# Altium footprint library Capacitor_THT.PcbLib: 378 footprints (part 14 of 24)
Each footprint in its own frame and in the unit in brackets; x right, y up, seen from the top. Pads: shape width x height; smd on the part's side, far side on the other; paste and mask are expansions set on the pad; w line width, h text height; cw(c..) or ccw(c..) is an arc to the next point about the centre after c.
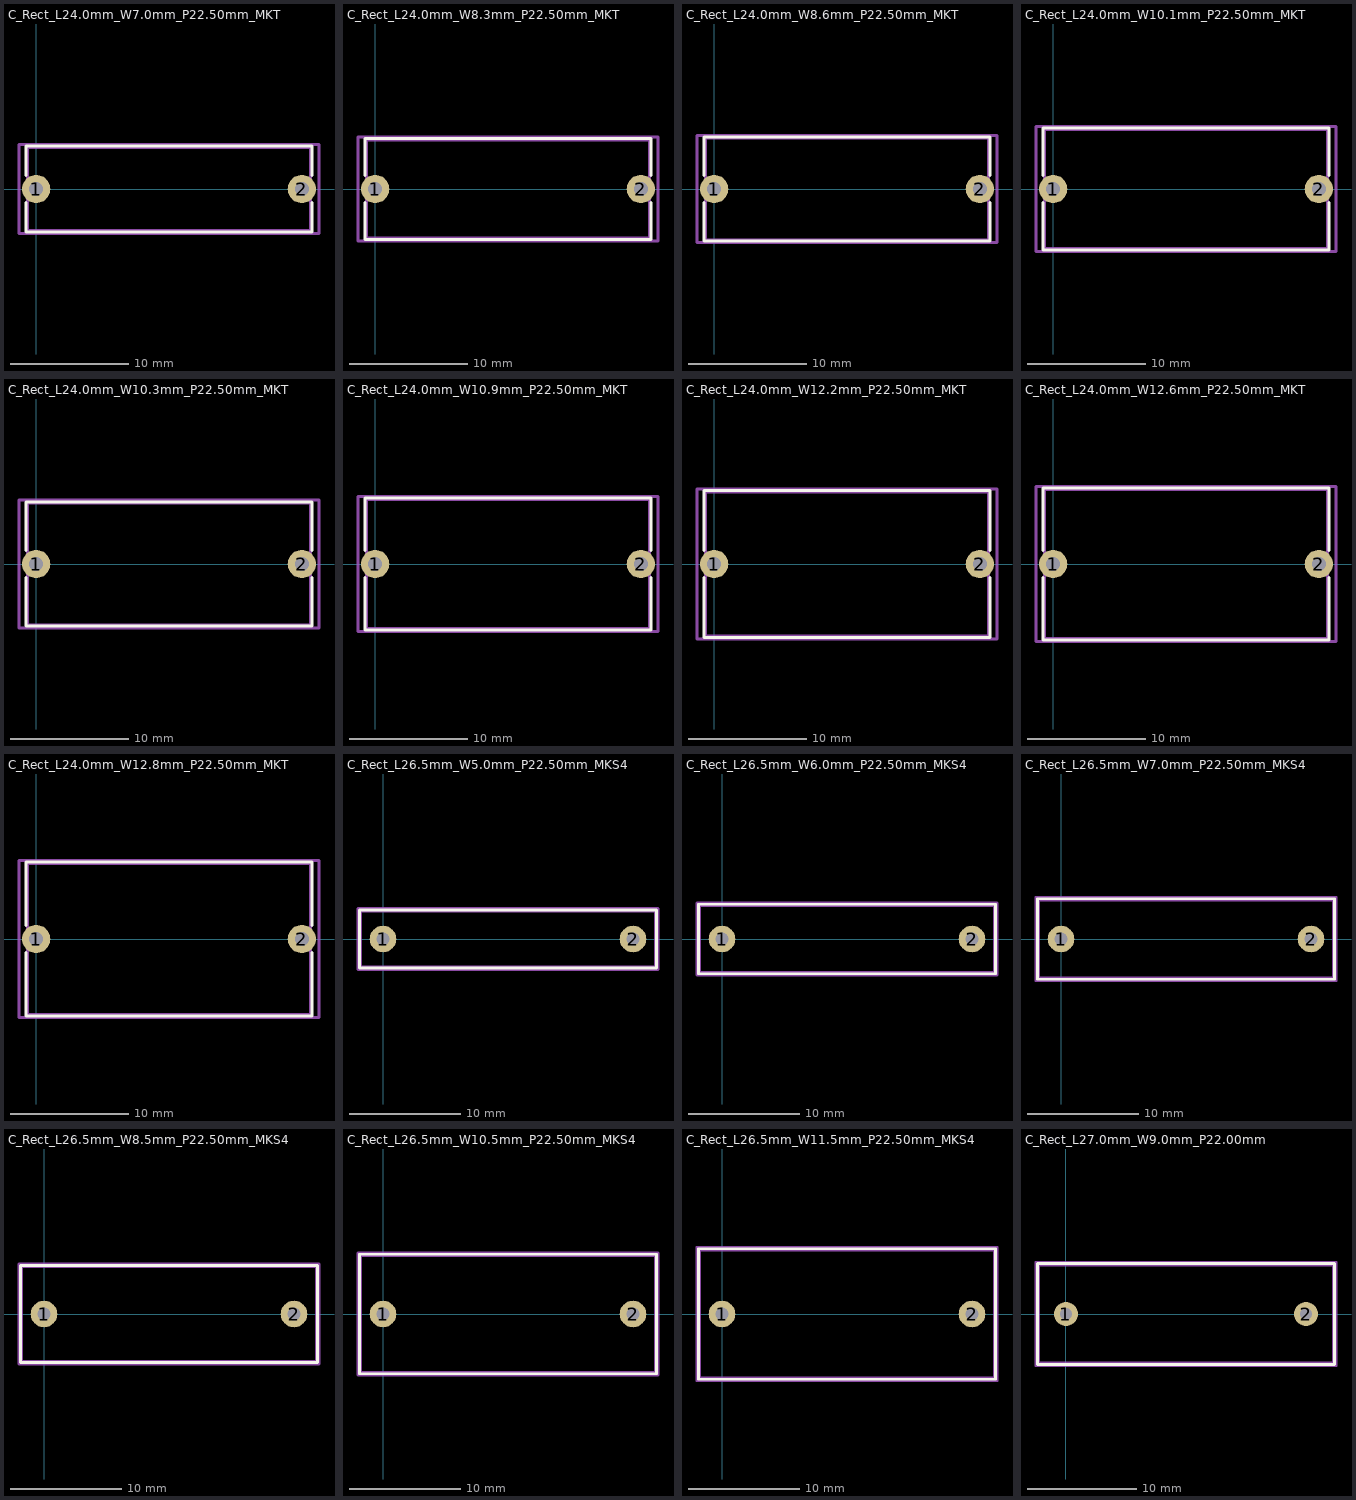
[diagram p13: the footprints below, top view; thin cyan lines are the x and y axes]

## C_Rect_L24.0mm_W7.0mm_P22.50mm_MKT [mm] "C_Rect_L24.0mm_W7.0mm_P22.50mm_MKT"
pads (2):
  round 2.4 hole 1.2: 1(0,0) 2(22.5,0)
F.SilkS:
  lines w0.254: -0.87,-1.147 -0.87,-3.62 23.37,-3.62 23.37,-1.147 ; -0.87,1.147 -0.87,3.62 23.37,3.62 23.37,1.147
Top Component Center:
  lines w0.127: -0.127,0 0.127,0 ; 0,-0.127 0,0.127
Top Assembly:
  lines w0.254: -0.75,-3.5 23.25,-3.5 23.25,3.5 -0.75,3.5 -0.75,-3.5
Top Courtyard:
  lines w0.254: -1.45,-3.75 23.95,-3.75 23.95,3.75 -1.45,3.75 -1.45,-3.75
Top Designator:
  text ".Designator" at 7.816,-0.345 h1.52
3D body "C_Rect_L24.0mm_W7.0mm_P22.50mm_MKT.step": height 15, standoff -1.9, extent -0.45,-3.5 22.95,3.5

## C_Rect_L24.0mm_W8.3mm_P22.50mm_MKT [mm] "C_Rect_L24.0mm_W8.3mm_P22.50mm_MKT"
pads (2):
  round 2.4 hole 1.2: 1(0,0) 2(22.5,0)
F.SilkS:
  lines w0.254: -0.87,-1.147 -0.87,-4.27 23.37,-4.27 23.37,-1.147 ; -0.87,1.147 -0.87,4.27 23.37,4.27 23.37,1.147
Top Component Center:
  lines w0.127: -0.127,0 0.127,0 ; 0,-0.127 0,0.127
Top Assembly:
  lines w0.254: -0.75,-4.15 23.25,-4.15 23.25,4.15 -0.75,4.15 -0.75,-4.15
Top Courtyard:
  lines w0.254: -1.45,-4.4 23.95,-4.4 23.95,4.4 -1.45,4.4 -1.45,-4.4
Top Designator:
  text ".Designator" at 7.816,-0.345 h1.52
3D body "C_Rect_L24.0mm_W8.3mm_P22.50mm_MKT.step": height 15, standoff -1.9, extent -0.45,-4.15 22.95,4.15

## C_Rect_L24.0mm_W8.6mm_P22.50mm_MKT [mm] "C_Rect_L24.0mm_W8.6mm_P22.50mm_MKT"
pads (2):
  round 2.4 hole 1.2: 1(0,0) 2(22.5,0)
F.SilkS:
  lines w0.254: -0.87,-1.147 -0.87,-4.42 23.37,-4.42 23.37,-1.147 ; -0.87,1.147 -0.87,4.42 23.37,4.42 23.37,1.147
Top Component Center:
  lines w0.127: -0.127,0 0.127,0 ; 0,-0.127 0,0.127
Top Assembly:
  lines w0.254: -0.75,-4.3 23.25,-4.3 23.25,4.3 -0.75,4.3 -0.75,-4.3
Top Courtyard:
  lines w0.254: -1.45,-4.55 23.95,-4.55 23.95,4.55 -1.45,4.55 -1.45,-4.55
Top Designator:
  text ".Designator" at 7.816,-0.345 h1.52
3D body "C_Rect_L24.0mm_W8.6mm_P22.50mm_MKT.step": height 15, standoff -1.9, extent -0.45,-4.3 22.95,4.3

## C_Rect_L24.0mm_W10.1mm_P22.50mm_MKT [mm] "C_Rect_L24.0mm_W10.1mm_P22.50mm_MKT"
pads (2):
  round 2.4 hole 1.2: 1(0,0) 2(22.5,0)
F.SilkS:
  lines w0.254: -0.87,-1.147 -0.87,-5.17 23.37,-5.17 23.37,-1.147 ; -0.87,1.147 -0.87,5.17 23.37,5.17 23.37,1.147
Top Component Center:
  lines w0.127: -0.127,0 0.127,0 ; 0,-0.127 0,0.127
Top Assembly:
  lines w0.254: -0.75,-5.05 23.25,-5.05 23.25,5.05 -0.75,5.05 -0.75,-5.05
Top Courtyard:
  lines w0.254: -1.45,-5.3 23.95,-5.3 23.95,5.3 -1.45,5.3 -1.45,-5.3
Top Designator:
  text ".Designator" at 7.816,-0.345 h1.52
3D body "C_Rect_L24.0mm_W10.1mm_P22.50mm_MKT.step": height 15, standoff -1.9, extent -0.45,-5.05 22.95,5.05

## C_Rect_L24.0mm_W10.3mm_P22.50mm_MKT [mm] "C_Rect_L24.0mm_W10.3mm_P22.50mm_MKT"
pads (2):
  round 2.4 hole 1.2: 1(0,0) 2(22.5,0)
F.SilkS:
  lines w0.254: -0.87,-1.147 -0.87,-5.27 23.37,-5.27 23.37,-1.147 ; -0.87,1.147 -0.87,5.27 23.37,5.27 23.37,1.147
Top Component Center:
  lines w0.127: -0.127,0 0.127,0 ; 0,-0.127 0,0.127
Top Assembly:
  lines w0.254: -0.75,-5.15 23.25,-5.15 23.25,5.15 -0.75,5.15 -0.75,-5.15
Top Courtyard:
  lines w0.254: -1.45,-5.4 23.95,-5.4 23.95,5.4 -1.45,5.4 -1.45,-5.4
Top Designator:
  text ".Designator" at 7.816,-0.345 h1.52
3D body "C_Rect_L24.0mm_W10.3mm_P22.50mm_MKT.step": height 15, standoff -1.9, extent -0.45,-5.15 22.95,5.15

## C_Rect_L24.0mm_W10.9mm_P22.50mm_MKT [mm] "C_Rect_L24.0mm_W10.9mm_P22.50mm_MKT"
pads (2):
  round 2.4 hole 1.2: 1(0,0) 2(22.5,0)
F.SilkS:
  lines w0.254: -0.87,-1.147 -0.87,-5.57 23.37,-5.57 23.37,-1.147 ; -0.87,1.147 -0.87,5.57 23.37,5.57 23.37,1.147
Top Component Center:
  lines w0.127: -0.127,0 0.127,0 ; 0,-0.127 0,0.127
Top Assembly:
  lines w0.254: -0.75,-5.45 23.25,-5.45 23.25,5.45 -0.75,5.45 -0.75,-5.45
Top Courtyard:
  lines w0.254: -1.45,-5.7 23.95,-5.7 23.95,5.7 -1.45,5.7 -1.45,-5.7
Top Designator:
  text ".Designator" at 7.816,-0.345 h1.52
3D body "C_Rect_L24.0mm_W10.9mm_P22.50mm_MKT.step": height 15, standoff -1.9, extent -0.45,-5.45 22.95,5.45

## C_Rect_L24.0mm_W12.2mm_P22.50mm_MKT [mm] "C_Rect_L24.0mm_W12.2mm_P22.50mm_MKT"
pads (2):
  round 2.4 hole 1.2: 1(0,0) 2(22.5,0)
F.SilkS:
  lines w0.254: -0.87,-1.147 -0.87,-6.22 23.37,-6.22 23.37,-1.147 ; -0.87,1.147 -0.87,6.22 23.37,6.22 23.37,1.147
Top Component Center:
  lines w0.127: -0.127,0 0.127,0 ; 0,-0.127 0,0.127
Top Assembly:
  lines w0.254: -0.75,-6.1 23.25,-6.1 23.25,6.1 -0.75,6.1 -0.75,-6.1
Top Courtyard:
  lines w0.254: -1.45,-6.35 23.95,-6.35 23.95,6.35 -1.45,6.35 -1.45,-6.35
Top Designator:
  text ".Designator" at 7.816,-0.345 h1.52
3D body "C_Rect_L24.0mm_W12.2mm_P22.50mm_MKT.step": height 15, standoff -1.9, extent -0.45,-6.1 22.95,6.1

## C_Rect_L24.0mm_W12.6mm_P22.50mm_MKT [mm] "C_Rect_L24.0mm_W12.6mm_P22.50mm_MKT"
pads (2):
  round 2.4 hole 1.2: 1(0,0) 2(22.5,0)
F.SilkS:
  lines w0.254: -0.87,-1.147 -0.87,-6.42 23.37,-6.42 23.37,-1.147 ; -0.87,1.147 -0.87,6.42 23.37,6.42 23.37,1.147
Top Component Center:
  lines w0.127: -0.127,0 0.127,0 ; 0,-0.127 0,0.127
Top Assembly:
  lines w0.254: -0.75,-6.3 23.25,-6.3 23.25,6.3 -0.75,6.3 -0.75,-6.3
Top Courtyard:
  lines w0.254: -1.45,-6.55 23.95,-6.55 23.95,6.55 -1.45,6.55 -1.45,-6.55
Top Designator:
  text ".Designator" at 7.816,-0.345 h1.52
3D body "C_Rect_L24.0mm_W12.6mm_P22.50mm_MKT.step": height 15, standoff -1.9, extent -0.45,-6.3 22.95,6.3

## C_Rect_L24.0mm_W12.8mm_P22.50mm_MKT [mm] "C_Rect_L24.0mm_W12.8mm_P22.50mm_MKT"
pads (2):
  round 2.4 hole 1.2: 1(0,0) 2(22.5,0)
F.SilkS:
  lines w0.254: -0.87,-1.147 -0.87,-6.52 23.37,-6.52 23.37,-1.147 ; -0.87,1.147 -0.87,6.52 23.37,6.52 23.37,1.147
Top Component Center:
  lines w0.127: -0.127,0 0.127,0 ; 0,-0.127 0,0.127
Top Assembly:
  lines w0.254: -0.75,-6.4 23.25,-6.4 23.25,6.4 -0.75,6.4 -0.75,-6.4
Top Courtyard:
  lines w0.254: -1.45,-6.65 23.95,-6.65 23.95,6.65 -1.45,6.65 -1.45,-6.65
Top Designator:
  text ".Designator" at 7.816,-0.345 h1.52
3D body "C_Rect_L24.0mm_W12.8mm_P22.50mm_MKT.step": height 15, standoff -1.9, extent -0.45,-6.4 22.95,6.4

## C_Rect_L26.5mm_W5.0mm_P22.50mm_MKS4 [mm] "C_Rect_L26.5mm_W5.0mm_P22.50mm_MKS4"
pads (2):
  round 2.4 hole 1.2: 1(0,0) 2(22.5,0)
F.SilkS:
  lines w0.254: -2.12,-2.62 24.62,-2.62 24.62,2.62 -2.12,2.62 -2.12,-2.62
Top Component Center:
  lines w0.127: -0.127,0 0.127,0 ; 0,-0.127 0,0.127
Top Assembly:
  lines w0.254: -2,-2.5 24.5,-2.5 24.5,2.5 -2,2.5 -2,-2.5
Top Courtyard:
  lines w0.254: -2.25,-2.75 24.75,-2.75 24.75,2.75 -2.25,2.75 -2.25,-2.75
Top Designator:
  text ".Designator" at 7.816,-0.345 h1.52
3D body "C_Rect_L26.5mm_W5.0mm_P22.50mm_MKS4.step": height 21, standoff -1.9, extent -2,-2.5 24.5,2.5

## C_Rect_L26.5mm_W6.0mm_P22.50mm_MKS4 [mm] "C_Rect_L26.5mm_W6.0mm_P22.50mm_MKS4"
pads (2):
  round 2.4 hole 1.2: 1(0,0) 2(22.5,0)
F.SilkS:
  lines w0.254: -2.12,-3.12 24.62,-3.12 24.62,3.12 -2.12,3.12 -2.12,-3.12
Top Component Center:
  lines w0.127: -0.127,0 0.127,0 ; 0,-0.127 0,0.127
Top Assembly:
  lines w0.254: -2,-3 24.5,-3 24.5,3 -2,3 -2,-3
Top Courtyard:
  lines w0.254: -2.25,-3.25 24.75,-3.25 24.75,3.25 -2.25,3.25 -2.25,-3.25
Top Designator:
  text ".Designator" at 7.816,-0.345 h1.52
3D body "C_Rect_L26.5mm_W6.0mm_P22.50mm_MKS4.step": height 21, standoff -1.9, extent -2,-3 24.5,3

## C_Rect_L26.5mm_W7.0mm_P22.50mm_MKS4 [mm] "C_Rect_L26.5mm_W7.0mm_P22.50mm_MKS4"
pads (2):
  round 2.4 hole 1.2: 1(0,0) 2(22.5,0)
F.SilkS:
  lines w0.254: -2.12,-3.62 -2.12,3.62 24.62,3.62 24.62,-3.62 -2.12,-3.62
Top Component Center:
  lines w0.127: -0.127,0 0.127,0 ; 0,-0.127 0,0.127
Top Assembly:
  lines w0.254: -2,-3.5 -2,3.5 24.5,3.5 24.5,-3.5 -2,-3.5
Top Courtyard:
  lines w0.254: -2.25,-3.75 -2.25,3.75 24.75,3.75 24.75,-3.75 -2.25,-3.75
Top Designator:
  text ".Designator" at 7.816,-0.345 h1.52
3D body "C_Rect_L26.5mm_W7.0mm_P22.50mm_MKS4.step": height 21, standoff -1.9, extent -2,-3.5 24.5,3.5

## C_Rect_L26.5mm_W8.5mm_P22.50mm_MKS4 [mm] "C_Rect_L26.5mm_W8.5mm_P22.50mm_MKS4"
pads (2):
  round 2.4 hole 1.2: 1(0,0) 2(22.5,0)
F.SilkS:
  lines w0.254: -2.12,-4.37 24.62,-4.37 24.62,4.37 -2.12,4.37 -2.12,-4.37
Top Component Center:
  lines w0.127: -0.127,0 0.127,0 ; 0,-0.127 0,0.127
Top Assembly:
  lines w0.254: -2,-4.25 24.5,-4.25 24.5,4.25 -2,4.25 -2,-4.25
Top Courtyard:
  lines w0.254: -2.25,-4.5 24.75,-4.5 24.75,4.5 -2.25,4.5 -2.25,-4.5
Top Designator:
  text ".Designator" at 7.816,-0.345 h1.52
3D body "C_Rect_L26.5mm_W8.5mm_P22.50mm_MKS4.step": height 21, standoff -1.9, extent -2,-4.25 24.5,4.25

## C_Rect_L26.5mm_W10.5mm_P22.50mm_MKS4 [mm] "C_Rect_L26.5mm_W10.5mm_P22.50mm_MKS4"
pads (2):
  round 2.4 hole 1.2: 1(0,0) 2(22.5,0)
F.SilkS:
  lines w0.254: -2.12,-5.37 24.62,-5.37 24.62,5.37 -2.12,5.37 -2.12,-5.37
Top Component Center:
  lines w0.127: -0.127,0 0.127,0 ; 0,-0.127 0,0.127
Top Assembly:
  lines w0.254: -2,-5.25 24.5,-5.25 24.5,5.25 -2,5.25 -2,-5.25
Top Courtyard:
  lines w0.254: -2.25,-5.5 24.75,-5.5 24.75,5.5 -2.25,5.5 -2.25,-5.5
Top Designator:
  text ".Designator" at 7.816,-0.345 h1.52
3D body "C_Rect_L26.5mm_W10.5mm_P22.50mm_MKS4.step": height 21, standoff -1.9, extent -2,-5.25 24.5,5.25

## C_Rect_L26.5mm_W11.5mm_P22.50mm_MKS4 [mm] "C_Rect_L26.5mm_W11.5mm_P22.50mm_MKS4"
pads (2):
  round 2.4 hole 1.2: 1(0,0) 2(22.5,0)
F.SilkS:
  lines w0.254: -2.12,-5.87 24.62,-5.87 24.62,5.87 -2.12,5.87 -2.12,-5.87
Top Component Center:
  lines w0.127: -0.127,0 0.127,0 ; 0,-0.127 0,0.127
Top Assembly:
  lines w0.254: -2,-5.75 24.5,-5.75 24.5,5.75 -2,5.75 -2,-5.75
Top Courtyard:
  lines w0.254: -2.25,-6 24.75,-6 24.75,6 -2.25,6 -2.25,-6
Top Designator:
  text ".Designator" at 7.816,-0.345 h1.52
3D body "C_Rect_L26.5mm_W11.5mm_P22.50mm_MKS4.step": height 21, standoff -1.9, extent -2,-5.75 24.5,5.75

## C_Rect_L27.0mm_W9.0mm_P22.00mm [mm] "C_Rect_L27.0mm_W9.0mm_P22.00mm"
pads (2):
  round 2.2 hole 1.1: 1(0,0) 2(22,0)
F.SilkS:
  lines w0.254: -2.62,-4.62 24.62,-4.62 24.62,4.62 -2.62,4.62 -2.62,-4.62
Top Component Center:
  lines w0.127: -0.127,0 0.127,0 ; 0,-0.127 0,0.127
Top Assembly:
  lines w0.254: -2.5,-4.5 24.5,-4.5 24.5,4.5 -2.5,4.5 -2.5,-4.5
Top Courtyard:
  lines w0.254: -2.75,-4.75 24.75,-4.75 24.75,4.75 -2.75,4.75 -2.75,-4.75
Top Designator:
  text ".Designator" at 7.566,-0.345 h1.52
3D body "C_Rect_L27.0mm_W9.0mm_P22.00mm.step": height 21, standoff -1.9, extent -2.5,-4.5 24.5,4.5